# Altium footprint library Connector.PcbLib: 2 footprints
Each footprint in its own frame and in the unit in brackets; x right, y up, seen from the top. Pads: shape width x height; smd on the part's side, far side on the other; paste and mask are expansions set on the pad; w line width, h text height; cw(c..) or ccw(c..) is an arc to the next point about the centre after c.
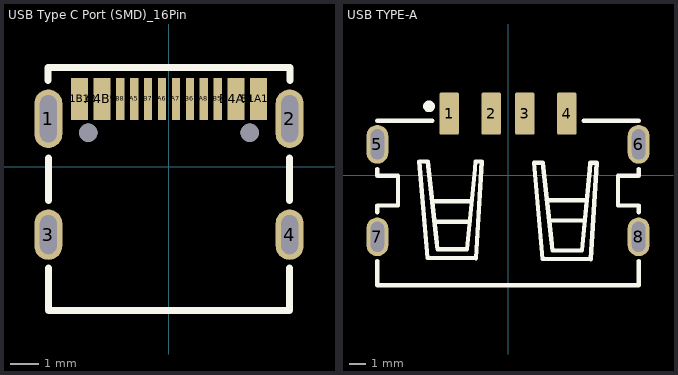
[diagram p0: the footprints below, top view; thin cyan lines are the x and y axes]

## USB Type C Port (SMD)_16Pin [mm]
pads (18):
  oval 1x2.1 hole 0.6 slot 1.7 at 90 deg: 1(-4.32,1.719) 2(4.32,1.719)
  oval 1x1.8 hole 0.6 slot 1.4 at 90 deg: 3(-4.32,-2.431) 4(4.32,-2.431)
  rect 0.6x1.5 smd: A1B12(-3.2,2.431) A4B9(-2.4,2.431) B1A12(3.2,2.431) B4A9(2.4,2.431)
  rect 0.3x1.5 smd: A5(-1.25,2.431) A6(-0.25,2.431) A7(0.25,2.431) A8(1.25,2.431) B5(1.75,2.431) B6(0.75,2.431) B7(-0.75,2.431) B8(-1.75,2.431)
  round 0.65 hole 0.65 unplated: ""(-2.89,1.219) ""(2.89,1.219)
Top Overlay:
  lines w0.254: -4.325,3.081 -4.325,3.556 -3.675,3.556 4.325,3.556 4.325,3.081 ; -4.318,-3.625 -4.318,-5.149 4.318,-5.149 4.318,-3.625 ; -4.318,-1.212 -4.318,0.312 ; 4.318,-1.212 4.318,0.312
3D body "USB Type C Port (SMD Type)_16Pin.STEP": height 3.2, standoff -1, extent -4.47,-4.969 4.47,2.931

## USB TYPE-A [mm]
pads (8):
  rrect15% 1.15x2.5 smd: 1(-3.5,3.663) 2(-1,3.663) 3(1,3.663) 4(3.5,3.663)
  oval 1.3x2.3 hole 0.8 slot 1.8 at 90 deg: 5(-7.775,1.838) 6(7.775,1.838) 7(-7.775,-3.662) 8(7.775,-3.662)
Top Overlay:
  circle w0.5: c-4.7,4.1 r0.1
  lines w0.254: -7.775,-5.1 -7.775,-6.55 7.775,-6.55 7.775,-5.1 ; -7.775,-2.2 -7.775,-1.8 -6.55,-1.8 -6.55,-0.7 -6.55,-0.025 -7.775,-0.025 -7.775,0.375 ; -7.775,3.25 -4.5,3.25 ; -4.449,-1.552 -2.189,-1.552 ; -4.309,-2.762 -2.279,-2.762 ; 2.401,-1.481 4.661,-1.481 ; 2.541,-2.691 4.57,-2.691 ; 4.5,3.25 7.775,3.25 ; 7.775,-2.2 7.775,-1.8 6.55,-1.8 6.55,-0.7 6.55,-0.025 7.775,-0.025 7.775,0.375 ; -5.287,0.815 -4.792,-4.92 -1.909,-4.931 -1.559,0.812 -1.939,0.812 -1.969,0.381 -2.443,-4.397 -4.193,-4.407 -4.268,-3.729 -4.778,0.811 -5.287,0.815 ; 1.552,0.745 2.047,-4.99 4.93,-5.001 5.28,0.742 4.9,0.742 4.87,0.312 4.396,-4.466 2.646,-4.477 2.571,-3.799 2.061,0.741 1.552,0.745